# Altium schematic symbol library CAP 20pF 50V.SchLib: 1 symbol
Pins are listed as number, name and electrical type; pins without a type are passive.

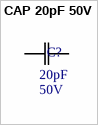
[diagram p0: symbol CAP 20pF 50V]

## CAP 20pF 50V
designator C?
CAP CER 22pF 50V C0G 0603/0805
footprint 0603 (Chip Resistor, 2-Leads, Body 1.60x0.80mm, IPC High Density)
footprint 0805
pins: 1 C1, 2 C2
text: 20pF; 50V